# EAGLE library part APDA03-41 (library kingbright)
Kingbrite dual display smd display with .3" character height Ordered from mouser
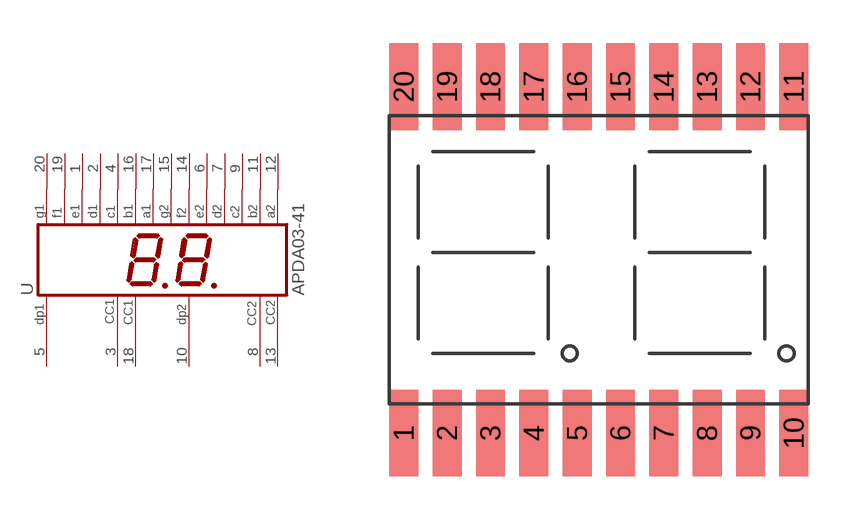
[diagram p0: symbol with the pads of KINGBRIGHT_2_.3; footprint KINGBRIGHT_2_.3]

Designator prefix -

## APDA03-41  [KINGBRIGHT_2_.3]
1  E1  pas
2  D1  pas
3  CC1A  pas
4  C1  pas
5  DP1  pas
6  E2  pas
7  D2  pas
8  CC2A  pas
9  C2  pas
10  DP2  pas
11  B2  pas
12  A2  pas
13  CC2B  pas
14  F2  pas
15  G2  pas
16  B1  pas
17  A1  pas
18  CC1B  pas
19  F1  pas
20  G1  pas

## Footprint KINGBRIGHT_2_.3 (pad centres in mm)
SMD LED .3" Character height package SMD pads on kingbright datasheet are 1.3x1.0 in this package they are 1.5x1.0 to make it easier to hand solder. Additionally, the characters drawn on aren't to scale or accurate as to their position
smd 1 x 3: 1 -6.25,-5.5; 2 -4.75,-5.5; 3 -3.25,-5.5; 4 -1.75,-5.5; 5 -0.25,-5.5; 6 1.25,-5.5; 7 2.75,-5.5; 8 4.25,-5.5; 9 5.75,-5.5; 10 7.25,-5.5; 11 7.25,6.5; 12 5.75,6.5; 13 4.25,6.5; 14 2.75,6.5; 15 1.25,6.5; 16 -0.25,6.5; 17 -1.75,6.5; 18 -3.25,6.5; 19 -4.75,6.5; 20 -6.25,6.5